# Altium schematic symbol library Варисторы.SchLib: 1 symbol
Pins are listed as number, name and electrical type; pins without a type are passive.

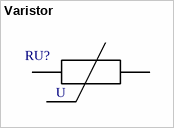
[diagram p0: symbol Varistor]

## Varistor
designator RU?  (value not drawn)
pins: 1, 2
text: U